# Altium footprint library WDX-DIY-PCB.PCBLIB: 138 footprints (part 7 of 9)
Each footprint in its own frame and in the unit in brackets; x right, y up, seen from the top. Pads: shape width x height; smd on the part's side, far side on the other; paste and mask are expansions set on the pad; w line width, h text height; cw(c..) or ccw(c..) is an arc to the next point about the centre after c.
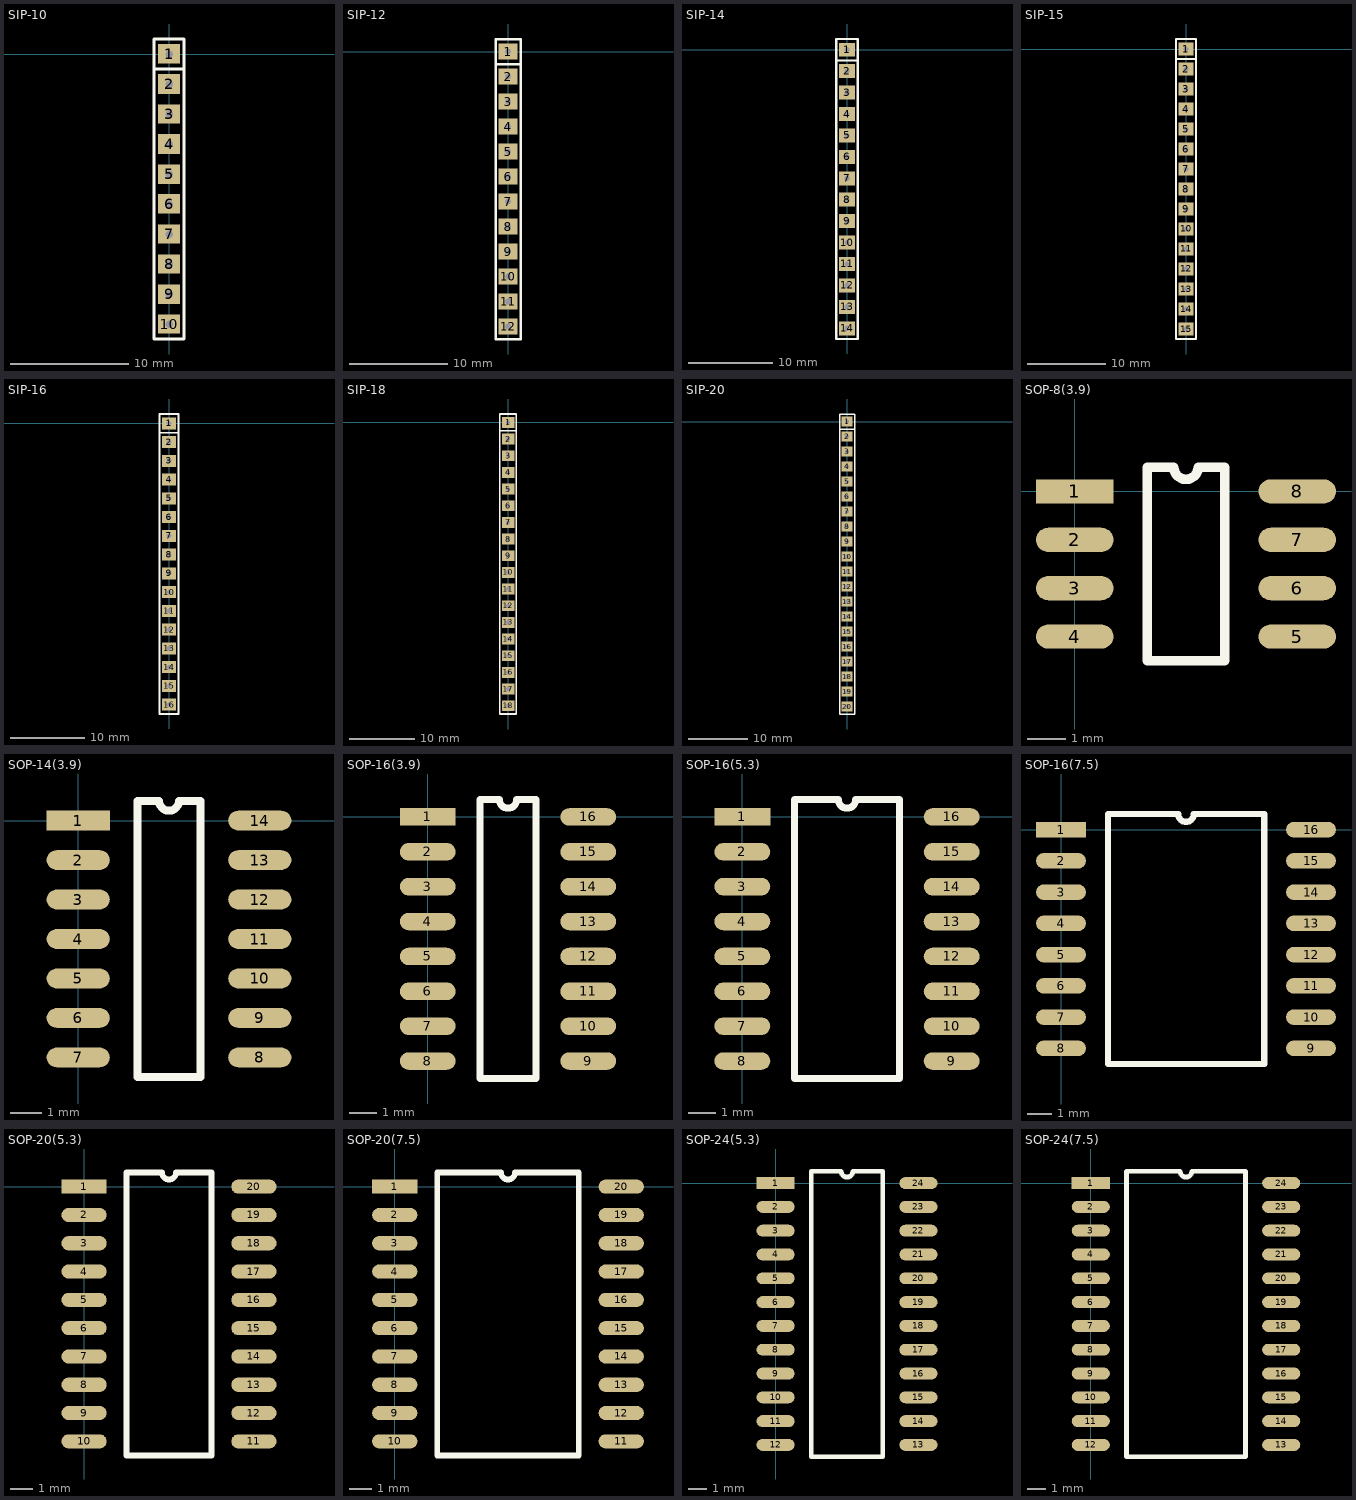
[diagram p6: the footprints below, top view; thin cyan lines are the x and y axes]

## SIP-10 [mil]
pads (10):
  rect 75x65 hole 25: 1(0,0) 2(0,-100) 3(0,-200) 4(0,-300) 5(0,-400) 6(0,-500) 7(0,-600) 8(0,-700) 9(0,-800) 10(0,-900)
TopOverlay:
  lines w10: -50,-50 50,-50 ; -50,-950 -50,50 50,50 50,-950 -50,-950

## SIP-12 [mil]
pads (12):
  rect 75x65 hole 25: 1(0,0) 2(0,-100) 3(0,-200) 4(0,-300) 5(0,-400) 6(0,-500) 7(0,-600) 8(0,-700) 9(0,-800) 10(0,-900) 11(0,-1000) 12(0,-1100)
TopOverlay:
  lines w10: -50,-50 50,-50 ; -50,-1150 -50,50 50,50 50,-1150 -50,-1150

## SIP-14 [mil]
pads (14):
  rect 75x65 hole 25: 1(0,0) 2(0,-100) 3(0,-200) 4(0,-300) 5(0,-400) 6(0,-500) 7(0,-600) 8(0,-700) 9(0,-800) 10(0,-900) 11(0,-1000) 12(0,-1100) 13(0,-1200) 14(0,-1300)
TopOverlay:
  lines w10: -50,-50 50,-50 ; -50,-1350 -50,50 50,50 50,-1350 -50,-1350

## SIP-15 [mil]
pads (15):
  rect 75x65 hole 25: 1(0,0) 2(0,-100) 3(0,-200) 4(0,-300) 5(0,-400) 6(0,-500) 7(0,-600) 8(0,-700) 9(0,-800) 10(0,-900) 11(0,-1000) 12(0,-1100) 13(0,-1200) 14(0,-1300) 15(0,-1400)
TopOverlay:
  lines w10: -50,-50 50,-50 ; -50,-1450 -50,50 50,50 50,-1450 -50,-1450

## SIP-16 [mil]
pads (16):
  rect 75x65 hole 25: 1(0,0) 2(0,-100) 3(0,-200) 4(0,-300) 5(0,-400) 6(0,-500) 7(0,-600) 8(0,-700) 9(0,-800) 10(0,-900) 11(0,-1000) 12(0,-1100) 13(0,-1200) 14(0,-1300) 15(0,-1400) 16(0,-1500)
TopOverlay:
  lines w10: -50,-50 50,-50 ; -50,-1550 50,-1550 50,50 -50,50 -50,-1550

## SIP-18 [mil]
pads (18):
  rect 75x65 hole 25: 1(0,0) 2(0,-100) 3(0,-200) 4(0,-300) 5(0,-400) 6(0,-500) 7(0,-600) 8(0,-700) 9(0,-800) 10(0,-900) 11(0,-1000) 12(0,-1100) 13(0,-1200) 14(0,-1300) 15(0,-1400) 16(0,-1500) 17(0,-1600) 18(0,-1700)
TopOverlay:
  lines w10: -50,-50 50,-50 ; -50,-1750 -50,50 50,50 50,-1750 -50,-1750

## SIP-20 [mil]
pads (20):
  rect 75x65 hole 25: 1(0,0) 2(0,-100) 3(0,-200) 4(0,-300) 5(0,-400) 6(0,-500) 7(0,-600) 8(0,-700) 9(0,-800) 10(0,-900) 11(0,-1000) 12(0,-1100) 13(0,-1200) 14(0,-1300) 15(0,-1400) 16(0,-1500) 17(0,-1600) 18(0,-1700) 19(0,-1800) 20(0,-1900)
TopOverlay:
  lines w10: -50,-50 50,-50 ; -50,-1950 50,-1950 50,50 -50,50 -50,-1950

## SOP-8(3.9) [mil]
pads (8):
  rect 80x25 smd: 1(0,0)
  oval 80x25 smd: 2(0,-50) 3(0,-100) 4(0,-150) 5(230,-150) 6(230,-100) 7(230,-50) 8(230,0)
TopOverlay:
  lines w10: 75,-175 75,25 102.5,25 ccw(c115,25) 127.5,25 155,25 155,-175 75,-175

## SOP-14(3.9) [mil]
pads (14):
  rect 80x25 smd: 1(0,0)
  oval 80x25 smd: 2(0,-50) 3(0,-100) 4(0,-150) 5(0,-200) 6(0,-250) 7(0,-300) 8(230,-300) 9(230,-250) 10(230,-200) 11(230,-150) 12(230,-100) 13(230,-50) 14(230,0)
TopOverlay:
  lines w10: 75,-325 155,-325 155,25 127.5,25 cw(c115,25) 102.5,25 75,25 75,-325

## SOP-16(3.9) [mil]
pads (16):
  rect 80x25 smd: 1(0,0)
  oval 80x25 smd: 2(0,-50) 3(0,-100) 4(0,-150) 5(0,-200) 6(0,-250) 7(0,-300) 8(0,-350) 9(230,-350) 10(230,-300) 11(230,-250) 12(230,-200) 13(230,-150) 14(230,-100) 15(230,-50) 16(230,0)
TopOverlay:
  lines w10: 75,-375 155,-375 155,25 127.5,25 cw(c115,25) 102.5,25 75,25 75,-375

## SOP-16(5.3) [mil]
pads (16):
  rect 80x25 smd: 1(0,0)
  oval 80x25 smd: 2(0,-50) 3(0,-100) 4(0,-150) 5(0,-200) 6(0,-250) 7(0,-300) 8(0,-350) 9(300,-350) 10(300,-300) 11(300,-250) 12(300,-200) 13(300,-150) 14(300,-100) 15(300,-50) 16(300,0)
TopOverlay:
  lines w10: 75,-375 225,-375 225,25 162.5,25 cw(c150,25) 137.5,25 75,25 75,-375

## SOP-16(7.5) [mil]
pads (16):
  rect 80x25 smd: 1(0,0)
  oval 80x25 smd: 2(0,-50) 3(0,-100) 4(0,-150) 5(0,-200) 6(0,-250) 7(0,-300) 8(0,-350) 9(400,-350) 10(400,-300) 11(400,-250) 12(400,-200) 13(400,-150) 14(400,-100) 15(400,-50) 16(400,0)
TopOverlay:
  lines w10: 75,-375 325,-375 325,25 212.5,25 cw(c200,25) 187.5,25 75,25 75,-375

## SOP-20(5.3) [mil]
pads (20):
  rect 80x25 smd: 1(0,0)
  oval 80x25 smd: 2(0,-50) 3(0,-100) 4(0,-150) 5(0,-200) 6(0,-250) 7(0,-300) 8(0,-350) 9(0,-400) 10(0,-450) 11(300,-450) 12(300,-400) 13(300,-350) 14(300,-300) 15(300,-250) 16(300,-200) 17(300,-150) 18(300,-100) 19(300,-50) 20(300,0)
TopOverlay:
  lines w10: 75,-475 75,25 137.5,25 ccw(c150,25) 162.5,25 225,25 225,-475 75,-475

## SOP-20(7.5) [mil]
pads (20):
  rect 80x25 smd: 1(0,0)
  oval 80x25 smd: 2(0,-50) 3(0,-100) 4(0,-150) 5(0,-200) 6(0,-250) 7(0,-300) 8(0,-350) 9(0,-400) 10(0,-450) 11(400,-450) 12(400,-400) 13(400,-350) 14(400,-300) 15(400,-250) 16(400,-200) 17(400,-150) 18(400,-100) 19(400,-50) 20(400,0)
TopOverlay:
  lines w10: 75,-475 75,25 187.5,25 ccw(c200,25) 212.5,25 325,25 325,-475 75,-475

## SOP-24(5.3) [mil]
pads (24):
  rect 80x25 smd: 1(0,0)
  oval 80x25 smd: 2(0,-50) 3(0,-100) 4(0,-150) 5(0,-200) 6(0,-250) 7(0,-300) 8(0,-350) 9(0,-400) 10(0,-450) 11(0,-500) 12(0,-550) 13(300,-550) 14(300,-500) 15(300,-450) 16(300,-400) 17(300,-350) 18(300,-300) 19(300,-250) 20(300,-200) 21(300,-150) 22(300,-100) 23(300,-50) 24(300,0)
TopOverlay:
  lines w10: 75,-575 75,25 137.5,25 ccw(c150,25) 162.5,25 225,25 225,-575 75,-575

## SOP-24(7.5) [mil]
pads (24):
  rect 80x25 smd: 1(0,0)
  oval 80x25 smd: 2(0,-50) 3(0,-100) 4(0,-150) 5(0,-200) 6(0,-250) 7(0,-300) 8(0,-350) 9(0,-400) 10(0,-450) 11(0,-500) 12(0,-550) 13(400,-550) 14(400,-500) 15(400,-450) 16(400,-400) 17(400,-350) 18(400,-300) 19(400,-250) 20(400,-200) 21(400,-150) 22(400,-100) 23(400,-50) 24(400,0)
TopOverlay:
  lines w10: 75,-575 325,-575 325,25 212.5,25 cw(c200,25) 187.5,25 75,25 75,-575